# Altium schematic symbol library 2N7002KW.Schlib: 1 symbol
Pins are listed as number, name and electrical type; pins without a type are passive.

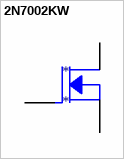
[diagram p0: symbol 2N7002KW]

## 2N7002KW
designator *
FET SM NCH 60V 310mA SOT323
pins: 1, 2, 3